# Altium integrated library Pedals SMD.IntLib: 124 symbols (part 1 of 7)
Pins are listed as number, name and electrical type; pins without a type are passive.

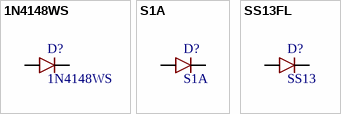
[diagram p0: symbols 1N4148WS to SS13FL]

## 1N4148WS
designator D?
DIODE GEN PURP 75V 150MA SOD323F; Manufacturer: ON Semiconductor / Fairchild; Element Configuration: Single; Reverse Recovery Time: 4ns; Forward Voltage: 1V; Peak Reverse Current: 5uA; Power Dissipation: 200mW; Max Forward Surge Current (Ifsm): 2A; Supplier 1: Farnell; Supplier Part Number 1: 2453269; Manufacturer Part Number: 1N4148WS; Stock: 379338; Pricing: 5=0.155, 25=0.151, 100=0.0529, 250=0.0498, 500=0.0477, 1000=0.0243, 5000=0.0193 (EUR); RoHS: Yes; Mount: Surface Mount; Number of Pins: 2; Weight: 0.0276g; Contact Plating: Tin; Min Operating Temperature: -55°C; Max Operating Temperature: 150°C; Forward Current: 150mA; Max Repetitive Reverse Voltage (Vrrm): 75V; Packaging: Tape and Reel; Package Quantity: 1; Average Rectified Current: 150mA; Max Reverse Voltage (DC): 75V; Recovery Time: 4ns; Reverse Voltage: 75V; Length: 1.8mm; Height: 1mm; Width: 1.35mm; Radiation Hardening: No; Lead Free: Lead Free; REACH SVHC: No SVHC; ComponentLink1URL: https://datasheet.ciiva.com/25968/1n914bws-25968945.pdf?src-supplier=Avnet+Europe; ComponentLink1Description: https://datasheet.ciiva.com/25968/1n914bws-25968945.pdf?src-supplier=Avnet+Europe; ComponentLink2URL: https://datasheet.ciiva.com/30479/0900766b810e1cd3-30479206.pdf?src-supplier=RSComponents; ComponentLink2Description: https://datasheet.ciiva.com/30479/0900766b810e1cd3-30479206.pdf?src-supplier=RSComponents; ComponentLink3URL: https://datasheet.ciiva.com/15208/getdatasheetpartid-127819-15208358.pdf?src-supplier=Verical; ComponentLink3Description: https://datasheet.ciiva.com/15208/getdatasheetpartid-127819-15208358.pdf?src-supplier=Verical; ComponentLink4URL: https://datasheet.ciiva.com/8300/1n914bws-8300360.pdf?src-supplier=Avnet; ComponentLink4Description: https://datasheet.ciiva.com/8300/1n914bws-8300360.pdf?src-supplier=Avnet; ComponentLink5URL: https://datasheet.ciiva.com/910/1n4148ws-910380.pdf?src-supplier=Digi-Key; ComponentLink5Description: https://datasheet.ciiva.com/910/1n4148ws-910380.pdf?src-supplier=Digi-Key; ComponentLink6URL: https://datasheet.ciiva.com/910/1n4148ws-910381.pdf?src-supplier=Digi-Key; ComponentLink6Description: https://datasheet.ciiva.com/910/1n4148ws-910381.pdf?src-supplier=Digi-Key; ComponentLink7URL: https://datasheet.ciiva.com/910/1n4148ws-910382.pdf?src-supplier=Digi-Key; ComponentLink7Description: https://datasheet.ciiva.com/910/1n4148ws-910382.pdf?src-supplier=Digi-Key; Price: 0.0521
footprint SOD323 (SODFL, 2-Leads, Body 1.25x2.50mm, IPC Medium Density)
pins: 1, 2

## S1A
designator D?
DIODE GEN PURP 50V 1A SMA; Manufacturer: ON Semiconductor / Fairchild; Peak Reverse Current: 1uA; Max Surge Current: 40A; Forward Voltage: 1.1V; Peak Non-Repetitive Surge Current: 30A; Element Configuration: Single; Capacitance: 12pF; Recovery Time: 1800ns; Reverse Recovery Time: 1.8us; Polarity: Standard; Power Dissipation: 1.4W; Supplier 1: Farnell; Supplier Part Number 1: 9843868; Manufacturer Part Number: S1A; Stock: 34555; Pricing: 5=0.184, 25=0.179, 100=0.0727, 250=0.0669, 500=0.0667, 1000=0.0364, 5000=0.0293 (EUR); RoHS: Yes; Mount: Surface Mount; Case/Package: SMA; Number of Pins: 2; Weight: 0.106g; Contact Plating: Tin; Min Operating Temperature: -55°C; Max Operating Temperature: 150°C; Packaging: Tape and Reel; Package Quantity: 1; Voltage Rating (DC): 50V; Current Rating: 1A; Output Current: 1A; Forward Current: 1A; Max Repetitive Reverse Voltage (Vrrm): 50V; Average Rectified Current: 1A; Max Forward Surge Current (Ifsm): 30A; Max Reverse Voltage (DC): 50V; Reverse Voltage: 50V; Width: 5.28mm; Radiation Hardening: No; REACH SVHC: No SVHC; Lead Free: Lead Free; ComponentLink1URL: https://datasheet.ciiva.com/910/s1a-910480.pdf?src-supplier=Avnet; ComponentLink1Description: https://datasheet.ciiva.com/910/s1a-910480.pdf?src-supplier=Avnet; ComponentLink2URL: https://datasheet.ciiva.com/23683/1730038-23683616.pdf?src-supplier=Newark; ComponentLink2Description: https://datasheet.ciiva.com/23683/1730038-23683616.pdf?src-supplier=Newark; ComponentLink3URL: https://datasheet.ciiva.com/4452/s1a-191336-4452662.pdf?src-supplier=Mouser; ComponentLink3Description: https://datasheet.ciiva.com/4452/s1a-191336-4452662.pdf?src-supplier=Mouser; ComponentLink4URL: https://datasheet.ciiva.com/25624/0900766b80f9b629-25624903.pdf?src-supplier=RSComponents; ComponentLink4Description: https://datasheet.ciiva.com/25624/0900766b80f9b629-25624903.pdf?src-supplier=RSComponents; ComponentLink5URL: https://datasheet.ciiva.com/916/s1a-916898.pdf?src-supplier=Digi-Key; ComponentLink5Description: https://datasheet.ciiva.com/916/s1a-916898.pdf?src-supplier=Digi-Key; ComponentLink6URL: https://datasheet.ciiva.com/916/s1a-916899.pdf?src-supplier=Digi-Key; ComponentLink6Description: https://datasheet.ciiva.com/916/s1a-916899.pdf?src-supplier=Digi-Key; ComponentLink7URL: https://datasheet.ciiva.com/916/s1a-916900.pdf?src-supplier=Digi-Key; ComponentLink7Description: https://datasheet.ciiva.com/916/s1a-916900.pdf?src-supplier=Digi-Key; ComponentLink8URL: https://datasheet.ciiva.com/16800/s1a-16800103.pdf?src-supplier=Future+Electronics; ComponentLink8Description: https://datasheet.ciiva.com/16800/s1a-16800103.pdf?src-supplier=Future+Electronics; ComponentLink9URL: https://datasheet.ciiva.com/28469/1766308-28469031.pdf?src-supplier=Element14; ComponentLink9Description: https://datasheet.ciiva.com/28469/1766308-28469031.pdf?src-supplier=Element14; ComponentLink10URL: https://datasheet.ciiva.com/26231/s1k-26231832.pdf?src-supplier=Avnet+Europe; ComponentLink10Description: https://datasheet.ciiva.com/26231/s1k-26231832.pdf?src-supplier=Avnet+Europe; ComponentLink11URL: https://datasheet.ciiva.com/16474/s1k-16474283.pdf?src-supplier=Avnet+Asia; ComponentLink11Description: https://datasheet.ciiva.com/16474/s1k-16474283.pdf?src-supplier=Avnet+Asia; Price: 0.072
footprint DO214 (Molded Diode, 2-Leads, Body 4.30x2.63mm, IPC Medium Density)
pins: 1, 2

## SS13FL
designator D?, comment SS13
DIODE SCHOTTKY 30V 1A SOD123F; Manufacturer: ON Semiconductor / Fairchild; Manufacturer Part Number: SS13FL; Reverse Recovery Time: 5.875ns; Element Configuration: Single; Max Forward Surge Current (Ifsm): 40A; Supplier 1: Farnell; Supplier Part Number 1: 2985372; Stock: 9000; Pricing: 3000=0.0439, 9000=0.0358 (EUR); RoHS: Yes; Mount: Surface Mount; Case/Package: SOD; Weight: 0.0276g; Packaging: Tape and Reel; Average Rectified Current: 1A; Max Repetitive Reverse Voltage (Vrrm): 30V; Max Reverse Voltage (DC): 30V; ComponentLink1URL: http://www.farnell.com/datasheets/2552650.pdf?src-supplier=Farnell; ComponentLink1Description: http://www.farnell.com/datasheets/2552650.pdf?src-supplier=Farnell; ComponentLink2URL: https://www.fairchildsemi.com/datasheets/SS/SS13FL.pdf?src-supplier=Digi-Key; ComponentLink2Description: https://www.fairchildsemi.com/datasheets/SS/SS13FL.pdf?src-supplier=Digi-Key; Price: 0.225
footprint SOD123F (SODFL, 2-Leads, Body 1.73x3.60mm, IPC Medium Density)
pins: 1, 2


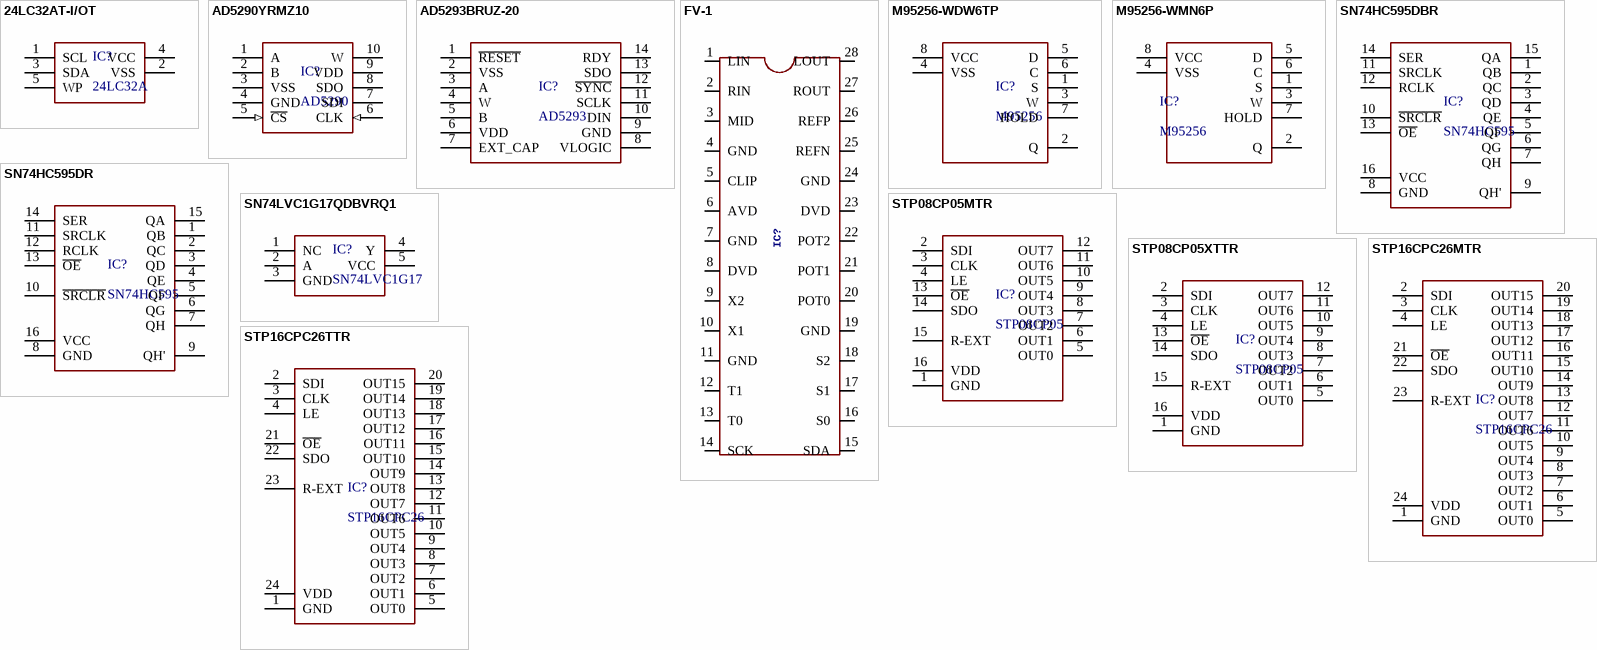
[diagram p1: symbols 24LC32AT-I/OT to STP16CPC26TTR]

## 24LC32AT-I/OT
designator IC?, comment 24LC32A
IC EEPROM 32KBIT 400KHZ SOT23-5; Manufacturer: Microchip; Manufacturer Part Number: 24LC32AT-I/OT; Interface: I2C,Serial; Access Time: 900ns; Density: 32Kb; Min Supply Voltage: 2.5V; Max Supply Voltage: 5.5V; Nominal Supply Current: 3mA; Operating Supply Voltage: 5V; Supplier 1: Farnell; Supplier Part Number 1: 1700993; RoHS: Yes; Category: EEPROM; Stock: 3287; Pricing: 1=0.29400, 10=0.29000, 25=0.28600, 50=0.27700, 100=0.26900 (EUR); Mount: Surface Mount; Case/Package: SOT-23; Number of Pins: 5; Contact Plating: Tin,Matte; Min Operating Temperature: -40°C; Max Operating Temperature: 85°C; Max Frequency: 400kHz; Frequency: 400kHz; Packaging: Tape and Reel; Package Quantity: 3000; Memory Type: EEPROM; Memory Size: 32Kb; Termination: SMD/SMT; Length: 3.1mm; Height: 1.3mm; Width: 1.8mm; Radiation Hardening: No; REACH SVHC: No SVHC; Lead Free: Lead Free; ComponentLink1URL: https://datasheet.ciiva.com/1155/1688094-1155269.pdf?src-supplier=Element14; ComponentLink1Description: https://datasheet.ciiva.com/1155/1688094-1155269.pdf?src-supplier=Element14; ComponentLink2URL: https://datasheet.ciiva.com/14134/24aa32a-24lc32a-eng-tds-14134837.pdf?src-supplier=Distrelec; ComponentLink2Description: https://datasheet.ciiva.com/14134/24aa32a-24lc32a-eng-tds-14134837.pdf?src-supplier=Distrelec; ComponentLink3URL: https://datasheet.ciiva.com/16221/filehandler-aspxddocname-en011853-16221753.pdf?src-supplier=Future+Electronics; ComponentLink3Description: https://datasheet.ciiva.com/16221/filehandler-aspxddocname-en011853-16221753.pdf?src-supplier=Future+Electronics; ComponentLink4URL: https://datasheet.ciiva.com/46410/1669362-46410953.pdf?src-supplier=Element14; ComponentLink4Description: https://datasheet.ciiva.com/46410/1669362-46410953.pdf?src-supplier=Element14; ComponentLink5URL: https://datasheet.ciiva.com/26910/getdatasheetpartid-757926-26910554.pdf?src-supplier=Verical; ComponentLink5Description: https://datasheet.ciiva.com/26910/getdatasheetpartid-757926-26910554.pdf?src-supplier=Verical; ComponentLink6URL: https://datasheet.ciiva.com/16621/21713l-16621534.pdf?src-supplier=Avnet+Europe; ComponentLink6Description: https://datasheet.ciiva.com/16621/21713l-16621534.pdf?src-supplier=Avnet+Europe; ComponentLink7URL: https://datasheet.ciiva.com/22715/1669362-22715182.pdf?src-supplier=Element14; ComponentLink7Description: https://datasheet.ciiva.com/22715/1669362-22715182.pdf?src-supplier=Element14
footprint SOT-23-5
pins: 1 SCL, 2 VSS (power), 3 SDA, 4 VCC (power), 5 WP

## AD5290YRMZ10
designator IC?, comment AD5290
DIGIPOT 8BIT 10K, SMD, 5290, MSOP10; Manufacturer: Analog Devices; Manufacturer Part Number: AD5290YRMZ10; Resistance: 10kR; Memory Type: Volatile; Number of Positions: 256; Interface: SPI; Min Supply Voltage: 20V; Max Supply Voltage: 30V; Number of Elements: 1; Tolerance: 30%; Nominal Supply Current: 15uA; Min Dual Supply Voltage: 10V; Max Dual Supply Voltage: 15V; Temperature Coefficient: 35ppm/°C; Frequency: 4MHz; -3db Bandwidth: 470Hz; Voltage: 35V; Supplier 1: Farnell; Supplier Part Number 1: 1274278; RoHS: Yes; Category: Digital Potentiometers; Stock: 199; Pricing: 1=5.36000, 10=4.31000, 25=3.90000, 50=3.71000, 100=3.55000, 250=3.20000, 500=2.75000 (EUR); Mount: Surface Mount; Case/Package: MSOP; Number of Pins: 10; Contact Plating: Tin,Matte; Min Operating Temperature: -40°C; Max Operating Temperature: 125°C; Packaging: Rail/Tube; Package Quantity: 50; Taper: Linear; Number of Circuits: 1; Number of Taps: 256; Operating Supply Current: 15uA; Max Supply Current: 15uA; Length: 3mm; Height: 0.85mm; Width: 3mm; Radiation Hardening: No; Lead Free: Contains Lead; REACH SVHC: No SVHC; ComponentLink1URL: https://datasheet.ciiva.com/1145/1519523-1145622.pdf?src-supplier=Element14; ComponentLink1Description: https://datasheet.ciiva.com/1145/1519523-1145622.pdf?src-supplier=Element14; ComponentLink2URL: https://datasheet.ciiva.com/25918/ad5290-25918522.pdf?src-supplier=Avnet+Europe; ComponentLink2Description: https://datasheet.ciiva.com/25918/ad5290-25918522.pdf?src-supplier=Avnet+Europe; ComponentLink3URL: https://datasheet.ciiva.com/1331/ad5290-1331012.pdf?src-supplier=Digi-Key; ComponentLink3Description: https://datasheet.ciiva.com/1331/ad5290-1331012.pdf?src-supplier=Digi-Key; ComponentLink4URL: https://datasheet.ciiva.com/16471/ad5290-16471686.pdf?src-supplier=Avnet+Asia; ComponentLink4Description: https://datasheet.ciiva.com/16471/ad5290-16471686.pdf?src-supplier=Avnet+Asia; ComponentLink5URL: https://datasheet.ciiva.com/3045/ad5290-3045389.pdf?src-supplier=Avnet; ComponentLink5Description: https://datasheet.ciiva.com/3045/ad5290-3045389.pdf?src-supplier=Avnet
footprint MSOP-10
pins: 1 A, 2 B, 3 VSS (power), 4 GND (power), 5 ~{CS} (in), 6 CLK (in), 7 SDI, 8 SDO, 9 VDD (power), 10 W

## AD5293BRUZ-20
designator IC?, comment AD5293
Digital Potentiometer 20kOhm 1024POS Volatile 14-Pin TSSOP Tube; Manufacturer: Analog Devices; Manufacturer Part Number: AD5293BRUZ-20; Resistance: 20kR; Number of Positions: 1024; Min Supply Voltage: 9V; Max Supply Voltage: 33V; Interface: SPI; Operating Supply Current: 200nA; Operating Supply Voltage: 15V; Temperature Coefficient: 5ppm/°C; Max Supply Current: 100nA; Tolerance: 1%; Number of Circuits: 1; Max Dual Supply Voltage: 16.5V; -3db Bandwidth: 520kHz; Supplier 1: Farnell; Supplier Part Number 1: 1827274; RoHS: Yes; Category: Digital Potentiometers; Stock: 195; Pricing: 1=6.38000, 10=5.22000, 25=4.92000, 50=4.62000, 100=4.39000, 250=4.12000, 500=3.94000 (EUR); Mount: Surface Mount; Case/Package: TSSOP; Number of Pins: 14; Contact Plating: Tin,Matte; Min Operating Temperature: -40°C; Max Operating Temperature: 105°C; Memory Type: Volatile; Packaging: Rail/Tube; Package Quantity: 96; Nominal Supply Current: 200nA; Taper: Linear; Number of Taps: 1024; Number of Elements: 1; Dual Supply Voltage: 15V; Min Dual Supply Voltage: 9V; Length: 5.1mm; Height: 1.2mm; Width: 4.5mm; Radiation Hardening: No; Lead Free: Contains Lead; REACH SVHC: No SVHC; ComponentLink1URL: https://datasheet.ciiva.com/25623/0900766b810ada80-25623724.pdf?src-supplier=RSComponents; ComponentLink1Description: https://datasheet.ciiva.com/25623/0900766b810ada80-25623724.pdf?src-supplier=RSComponents; ComponentLink2URL: https://datasheet.ciiva.com/1146/ad5293-1146560.pdf?src-supplier=Element14; ComponentLink2Description: https://datasheet.ciiva.com/1146/ad5293-1146560.pdf?src-supplier=Element14; ComponentLink3URL: https://datasheet.ciiva.com/26801/ad5293bruz-20-26801803.pdf?src-supplier=IIIC; ComponentLink3Description: https://datasheet.ciiva.com/26801/ad5293bruz-20-26801803.pdf?src-supplier=IIIC; ComponentLink4URL: https://datasheet.ciiva.com/1331/ad5293-1331078.pdf?src-supplier=Digi-Key; ComponentLink4Description: https://datasheet.ciiva.com/1331/ad5293-1331078.pdf?src-supplier=Digi-Key; ComponentLink5URL: https://datasheet.ciiva.com/3045/ad5293-3045960.pdf?src-supplier=Avnet; ComponentLink5Description: https://datasheet.ciiva.com/3045/ad5293-3045960.pdf?src-supplier=Avnet; ComponentLink6URL: https://datasheet.ciiva.com/1149/ad5293-1149307.pdf?src-supplier=Farnell; ComponentLink6Description: https://datasheet.ciiva.com/1149/ad5293-1149307.pdf?src-supplier=Farnell; ComponentLink7URL: https://datasheet.ciiva.com/16593/ad5293-16593547.pdf?src-supplier=Avnet+Europe; ComponentLink7Description: https://datasheet.ciiva.com/16593/ad5293-16593547.pdf?src-supplier=Avnet+Europe; ComponentLink8URL: https://datasheet.ciiva.com/15145/getdatasheetpartid-205736-15145773.pdf?src-supplier=Verical; ComponentLink8Description: https://datasheet.ciiva.com/15145/getdatasheetpartid-205736-15145773.pdf?src-supplier=Verical; ComponentLink9URL: https://datasheet.ciiva.com/1145/1314771-1145670.pdf?src-supplier=Element14; ComponentLink9Description: https://datasheet.ciiva.com/1145/1314771-1145670.pdf?src-supplier=Element14; ComponentLink10URL: https://datasheet.ciiva.com/48710/001246189-da-01-en-ic-dgtl-pot-1-ad5293bruz-20-tssop-14-adi-48710844.pdf?src-supplier=Conrad; ComponentLink10Description: https://datasheet.ciiva.com/48710/001246189-da-01-en-ic-dgtl-pot-1-ad5293bruz-20-tssop-14-adi-48710844.pdf?src-supplier=Conrad
footprint TSSOP-14 (TSOP, 14-Leads, Body 5.00x4.40mm, Pitch 0.65mm, IPC Medium Density)
pins: 1 ~{RESET}, 2 VSS, 3 A, 4 W, 5 B, 6 VDD, 7 EXT_CAP, 8 VLOGIC, 9 GND, 10 DIN, 11 SCLK, 12 ~{SYNC}, 13 SDO, 14 RDY

## FV-1
designator IC?  (value not drawn)
Spinsemi FV-1; Package: SOIC-28; Price: 8
footprint SO-28
pins: 1 LIN, 2 RIN, 3 MID, 4 GND, 5 CLIP, 6 AVD, 7 GND, 8 DVD, 9 X2, 10 X1, 11 GND, 12 T1, 13 T0, 14 SCK, 15 SDA, 16 S0, 17 S1, 18 S2, 19 GND, 20 POT0, 21 POT1, 22 POT2, 23 DVD, 24 GND, 25 REFN, 26 REFP, 27 ROUT, 28 LOUT

## M95256-WDW6TP
designator IC?, comment M95256
IC EEPROM 256KBIT 5MHZ 8TSSOP; Manufacturer: STMicroelectronics; Manufacturer Part Number: M95256-WDW6TP; Interface: SPI,Serial; Access Time: 60ns; Density: 256Kb; Max Supply Voltage: 5.5V; Min Supply Voltage: 2.5V; Nominal Supply Current: 5mA; Operating Supply Voltage: 5V; Supplier 1: Farnell; Supplier Part Number 1: 3129844; RoHS: Yes; Category: EEPROM; Stock: 3323; Pricing: 1=0.60500, 50=0.52800, 100=0.46800, 250=0.46500, 500=0.46200, 1000=0.44500, 2500=0.36700, 5000=0.36100 (EUR); Mount: Surface Mount; Case/Package: TSSOP; Number of Pins: 8; Min Operating Temperature: -40°C; Max Operating Temperature: 85°C; Max Frequency: 5MHz; Frequency: 5MHz; Packaging: Tape and Reel; Package Quantity: 1; Memory Type: EEPROM; Memory Size: 256Kb; Radiation Hardening: No; ComponentLink1URL: https://datasheet.ciiva.com/15123/getdatasheetpartid-224457-15123296.pdf?src-supplier=Verical; ComponentLink1Description: https://datasheet.ciiva.com/15123/getdatasheetpartid-224457-15123296.pdf?src-supplier=Verical; ComponentLink2URL: https://datasheet.ciiva.com/26872/m95256-wdw6tp-26872589.pdf?src-supplier=IIIC; ComponentLink2Description: https://datasheet.ciiva.com/26872/m95256-wdw6tp-26872589.pdf?src-supplier=IIIC; ComponentLink3URL: https://datasheet.ciiva.com/1905/cd00103810-1905235.pdf?src-supplier=Digi-Key; ComponentLink3Description: https://datasheet.ciiva.com/1905/cd00103810-1905235.pdf?src-supplier=Digi-Key; ComponentLink4URL: https://datasheet.ciiva.com/1905/cd00103810-1905236.pdf?src-supplier=Digi-Key; ComponentLink4Description: https://datasheet.ciiva.com/1905/cd00103810-1905236.pdf?src-supplier=Digi-Key; ComponentLink5URL: https://datasheet.ciiva.com/1905/cd00103810-1905237.pdf?src-supplier=Digi-Key; ComponentLink5Description: https://datasheet.ciiva.com/1905/cd00103810-1905237.pdf?src-supplier=Digi-Key; ComponentLink6URL: https://datasheet.ciiva.com/16622/cd00103810-16622982.pdf?src-supplier=Avnet+Europe; ComponentLink6Description: https://datasheet.ciiva.com/16622/cd00103810-16622982.pdf?src-supplier=Avnet+Europe
footprint TSSOP-8 (TSOP, 8-Leads, Body 3.00x4.40mm, Pitch 0.65mm, IPC Medium Density)
pins: 1 S, 2 Q, 3 W, 4 VSS (power), 5 D, 6 C, 7 HOLD, 8 VCC (power)

## M95256-WMN6P
designator IC?, comment M95256
IC EEPROM 256K SPI 20MHZ 8SO; Manufacturer: STMicroelectronics; Manufacturer Part Number: M95256-WMN6P; Interface: SPI,Serial; Frequency: 5MHz; Access Time: 60ns; Density: 256Kb; Min Supply Voltage: 2.5V; Max Supply Voltage: 5.5V; Nominal Supply Current: 5mA; Supplier 1: Farnell; Supplier Part Number 1: 1099712; RoHS: Yes; Category: EEPROM; Stock: 4109; Pricing: 1=0.63300, 50=0.55300, 100=0.49000, 250=0.48700, 500=0.48300, 1000=0.46600, 2500=0.38800, 5000=0.37200 (EUR); Mount: Surface Mount; Case/Package: SOIC; Number of Pins: 8; Contact Plating: Gold; Min Operating Temperature: -40°C; Max Operating Temperature: 85°C; Packaging: Rail/Tube; Memory Size: 256Kb; Max Frequency: 5MHz; Package Quantity: 100; Memory Type: EEPROM; Length: 5mm; Height: 1.5mm; Width: 4mm; Radiation Hardening: No; REACH SVHC: No SVHC; Lead Free: Lead Free; ComponentLink1URL: https://datasheet.ciiva.com/4859/cd00103810-224498-4859620.pdf?src-supplier=Mouser; ComponentLink1Description: https://datasheet.ciiva.com/4859/cd00103810-224498-4859620.pdf?src-supplier=Mouser; ComponentLink2URL: https://datasheet.ciiva.com/15123/getdatasheetpartid-42741-15123093.pdf?src-supplier=Verical; ComponentLink2Description: https://datasheet.ciiva.com/15123/getdatasheetpartid-42741-15123093.pdf?src-supplier=Verical; ComponentLink3URL: https://datasheet.ciiva.com/14163/m95256-w-eng-tds-14163003.pdf?src-supplier=Distrelec; ComponentLink3Description: https://datasheet.ciiva.com/14163/m95256-w-eng-tds-14163003.pdf?src-supplier=Distrelec; ComponentLink4URL: https://datasheet.ciiva.com/1905/cd00103810-1905381.pdf?src-supplier=Digi-Key; ComponentLink4Description: https://datasheet.ciiva.com/1905/cd00103810-1905381.pdf?src-supplier=Digi-Key; ComponentLink5URL: https://datasheet.ciiva.com/8055/1723939-8055206.pdf?src-supplier=Element14; ComponentLink5Description: https://datasheet.ciiva.com/8055/1723939-8055206.pdf?src-supplier=Element14; ComponentLink6URL: https://datasheet.ciiva.com/16622/cd00103810-16622983.pdf?src-supplier=Avnet+Europe; ComponentLink6Description: https://datasheet.ciiva.com/16622/cd00103810-16622983.pdf?src-supplier=Avnet+Europe; ComponentLink7URL: https://datasheet.ciiva.com/41455/001185592-da-01-en-ic-eepr-256kbit-m95256-wmn6p-soic-8-stm-41455210.pdf?src-supplier=Conrad; ComponentLink7Description: https://datasheet.ciiva.com/41455/001185592-da-01-en-ic-eepr-256kbit-m95256-wmn6p-soic-8-stm-41455210.pdf?src-supplier=Conrad
footprint SO-8 (SOIC, 8-Leads, Body 4.90x3.90mm, Pitch 1.27mm, IPC Medium Density)
pins: 1 S, 2 Q, 3 W, 4 VSS (power), 5 D, 6 C, 7 HOLD, 8 VCC (power)

## SN74HC595DBR
designator IC?, comment SN74HC595
IC SHIFT REGISTER 8BIT 16-SSOP; Manufacturer: Texas Instruments; Manufacturer Part Number: SN74HC595DBR; Operating Supply Voltage: 5V; Propagation Delay: 34ns; Min Supply Voltage: 2V; Max Supply Voltage: 6V; Number of Elements: 1; Direction: Unidirectional; Number of Bits per Element: 8; Number of Circuits: 4; Number of Output Lines: 10; Turn-On Delay Time: 250ns; Quiescent Current: 8uA; Supplier 1: Farnell; Supplier Part Number 1: 2499904; RoHS: Yes; Category: Shift Registers; Stock: 187; Pricing: 5=0.18800, 50=0.15100, 100=0.12200 (EUR); Mount: Surface Mount; Case/Package: SSOP; Number of Pins: 16; Weight: 0.004536oz; Contact Plating: Gold; Min Operating Temperature: -40°C; Max Operating Temperature: 85°C; Packaging: Tape and Reel; Package Quantity: 2000; Logic Function: Shift Register; Number of Bits: 8; Radiation Hardening: No; Lead Free: Lead Free; REACH SVHC: No SVHC; ComponentLink1URL: https://datasheet.ciiva.com/1887/sn74hc595-1887145.pdf?src-supplier=Digi-Key; ComponentLink1Description: https://datasheet.ciiva.com/1887/sn74hc595-1887145.pdf?src-supplier=Digi-Key; ComponentLink2URL: https://datasheet.ciiva.com/26259/sn74hc595-26259950.pdf?src-supplier=Avnet+Europe; ComponentLink2Description: https://datasheet.ciiva.com/26259/sn74hc595-26259950.pdf?src-supplier=Avnet+Europe; ComponentLink3URL: https://datasheet.ciiva.com/14295/sn74hc595-14295293.pdf?src-supplier=Avnet; ComponentLink3Description: https://datasheet.ciiva.com/14295/sn74hc595-14295293.pdf?src-supplier=Avnet; ComponentLink4URL: https://datasheet.ciiva.com/14296/sn74hc595-14296542.pdf?src-supplier=Avnet; ComponentLink4Description: https://datasheet.ciiva.com/14296/sn74hc595-14296542.pdf?src-supplier=Avnet
footprint TSSOP-16 (TSOP, 16-Leads, Body 4.95x4.35mm, Pitch 0.65mm, IPC Medium Density)
pins: 1 QB, 2 QC, 3 QD, 4 QE, 5 QF, 6 QG, 7 QH, 8 GND, 9 QH', 10 ~{SRCLR}, 11 SRCLK, 12 RCLK, 13 ~{OE}, 14 SER, 15 QA, 16 VCC

## SN74HC595DR
designator IC?, comment SN74HC595
IC, SM, LOGIC, 74HC, REGISTER; Manufacturer: Texas Instruments; Manufacturer Part Number: SN74HC595DR; Direction: Unidirectional; Max Supply Voltage: 6V; Min Supply Voltage: 2V; Propagation Delay: 250ns; Logic Function: Shift Register; Number of Elements: 1; Number of Circuits: 4; Number of Bits: 8; Operating Supply Voltage: 5V; Number of Output Lines: 10; Quiescent Current: 8uA; Frequency: 42MHz; Max Input Current: 1uA; Supplier 1: Farnell; Supplier Part Number 1: 1607849; RoHS: Yes; Category: Shift Registers; Stock: 8089; Pricing: 5=0.35500, 50=0.28400, 100=0.21300, 250=0.18900, 500=0.16600, 1000=0.14100, 5000=0.13300 (EUR); Mount: Surface Mount; Case/Package: SOIC; Number of Pins: 16; Weight: 0.004998oz; Contact Plating: Gold; Min Operating Temperature: -40°C; Max Operating Temperature: 85°C; Packaging: Tape and Reel; Package Quantity: 2500; Number of Bits per Element: 8; Turn-On Delay Time: 250ns; Termination: SMD/SMT; Length: 9.9mm; Height: 1.58mm; Width: 3.91mm; Radiation Hardening: No; Lead Free: Lead Free; REACH SVHC: No SVHC; ComponentLink1URL: https://datasheet.ciiva.com/15093/getdatasheetpartid-134875-15093436.pdf?src-supplier=Verical; ComponentLink1Description: https://datasheet.ciiva.com/15093/getdatasheetpartid-134875-15093436.pdf?src-supplier=Verical; ComponentLink2URL: https://datasheet.ciiva.com/22696/1831198-22696812.pdf?src-supplier=Element14; ComponentLink2Description: https://datasheet.ciiva.com/22696/1831198-22696812.pdf?src-supplier=Element14; ComponentLink3URL: https://datasheet.ciiva.com/34301/916385-34301758.pdf?src-supplier=Jameco; ComponentLink3Description: https://datasheet.ciiva.com/34301/916385-34301758.pdf?src-supplier=Jameco; ComponentLink4URL: https://datasheet.ciiva.com/26866/sn74hc595dr-26866161.pdf?src-supplier=IIIC; ComponentLink4Description: https://datasheet.ciiva.com/26866/sn74hc595dr-26866161.pdf?src-supplier=IIIC; ComponentLink5URL: https://datasheet.ciiva.com/1886/sn74hc595-1886279.pdf?src-supplier=Digi-Key; ComponentLink5Description: https://datasheet.ciiva.com/1886/sn74hc595-1886279.pdf?src-supplier=Digi-Key; ComponentLink6URL: https://datasheet.ciiva.com/1886/sn74hc595-1886280.pdf?src-supplier=Digi-Key; ComponentLink6Description: https://datasheet.ciiva.com/1886/sn74hc595-1886280.pdf?src-supplier=Digi-Key; ComponentLink7URL: https://datasheet.ciiva.com/1886/sn74hc595-1886281.pdf?src-supplier=Digi-Key; ComponentLink7Description: https://datasheet.ciiva.com/1886/sn74hc595-1886281.pdf?src-supplier=Digi-Key; ComponentLink8URL: https://datasheet.ciiva.com/1509/1831198-1509483.pdf?src-supplier=Element14; ComponentLink8Description: https://datasheet.ciiva.com/1509/1831198-1509483.pdf?src-supplier=Element14; ComponentLink9URL: https://datasheet.ciiva.com/46381/1886142-46381835.pdf?src-supplier=Element14; ComponentLink9Description: https://datasheet.ciiva.com/46381/1886142-46381835.pdf?src-supplier=Element14; ComponentLink10URL: https://datasheet.ciiva.com/14294/sn74hc595-14294989.pdf?src-supplier=Avnet; ComponentLink10Description: https://datasheet.ciiva.com/14294/sn74hc595-14294989.pdf?src-supplier=Avnet; ComponentLink11URL: https://datasheet.ciiva.com/14294/sn74hc595-14294991.pdf?src-supplier=Avnet; ComponentLink11Description: https://datasheet.ciiva.com/14294/sn74hc595-14294991.pdf?src-supplier=Avnet; ComponentLink12URL: https://datasheet.ciiva.com/46435/1831198-46435871.pdf?src-supplier=Element14; ComponentLink12Description: https://datasheet.ciiva.com/46435/1831198-46435871.pdf?src-supplier=Element14
footprint SO-16 (SOIC, 16-Leads, Body 9.85x3.85mm, Pitch 1.27mm, IPC Medium Density)
pins: 1 QB, 2 QC, 3 QD, 4 QE, 5 QF, 6 QG, 7 QH, 8 GND, 9 QH', 10 ~{SRCLR}, 11 SRCLK, 12 RCLK, 13 ~{OE}, 14 SER, 15 QA, 16 VCC

## SN74LVC1G17QDBVRQ1
designator IC?, comment SN74LVC1G17
Schmitt Trigger Buffer 1-CH Non-Inverting CMOS Automotive 5-Pin SOT-23 T/R; Manufacturer: Texas Instruments; Manufacturer Part Number: SN74LVC1G17QDBVRQ1; Logic Function: Schmitt Trigger,Buffer; Max Supply Voltage: 5.5V; Min Supply Voltage: 1.65V; Propagation Delay: 8ns; Number of Channels: 1; Low Level Output Current: 32mA; High Level Output Current: -32mA; Turn-On Delay Time: 14ns; Quiescent Current: 20uA; Supplier 1: Farnell; Supplier Part Number 1: 2463773; RoHS: Yes; Category: Logic Gates; Stock: 8770; Pricing: 5=0.23100, 50=0.17800, 100=0.12400, 250=0.10900, 500=0.09450, 1000=0.07980, 5000=0.07410 (EUR); Mount: Surface Mount; Case/Package: SOT-23-5; Number of Pins: 5; Min Operating Temperature: -40°C; Max Operating Temperature: 125°C; Polarity: Non-Inverting; Packaging: Tape and Reel; Package Quantity: 3000; Number of Outputs: 1; Number of Elements: 1; Number of Bits per Element: 1; Number of Bits: 1; Number of Inputs: 1; Number of Input Lines: 1; Number of Output Lines: 1; Radiation Hardening: No; REACH SVHC: No SVHC; Lead Free: Lead Free; ComponentLink1URL: https://datasheet.ciiva.com/26220/sn74lvc1g17-q1-26220672.pdf?src-supplier=Avnet+Europe; ComponentLink1Description: https://datasheet.ciiva.com/26220/sn74lvc1g17-q1-26220672.pdf?src-supplier=Avnet+Europe; ComponentLink2URL: https://datasheet.ciiva.com/6623/sn74lvc1g17-q1-6623803.pdf?src-supplier=Digi-Key; ComponentLink2Description: https://datasheet.ciiva.com/6623/sn74lvc1g17-q1-6623803.pdf?src-supplier=Digi-Key; ComponentLink3URL: https://datasheet.ciiva.com/6623/sn74lvc1g17-q1-6623805.pdf?src-supplier=Digi-Key; ComponentLink3Description: https://datasheet.ciiva.com/6623/sn74lvc1g17-q1-6623805.pdf?src-supplier=Digi-Key; ComponentLink4URL: https://datasheet.ciiva.com/14318/sces663a-14318069.pdf?src-supplier=Avnet; ComponentLink4Description: https://datasheet.ciiva.com/14318/sces663a-14318069.pdf?src-supplier=Avnet; ComponentLink5URL: https://datasheet.ciiva.com/46442/1840260-46442070.pdf?src-supplier=Element14; ComponentLink5Description: https://datasheet.ciiva.com/46442/1840260-46442070.pdf?src-supplier=Element14; ComponentLink6URL: https://datasheet.ciiva.com/6623/sn74lvc1g17-q1-6623804.pdf?src-supplier=Digi-Key; ComponentLink6Description: https://datasheet.ciiva.com/6623/sn74lvc1g17-q1-6623804.pdf?src-supplier=Digi-Key
footprint SOT-23-5
pins: 1 NC, 2 A, 3 GND, 4 Y, 5 VCC

## STP08CP05MTR
designator IC?, comment STP08CP05
IC SHIFT REGISTER 8BIT 16SOIC; Manufacturer: STMicroelectronics; Manufacturer Part Number: STP08CP05MTR; Max Supply Voltage: 5.5V; Min Supply Voltage: 3V; Number of Outputs: 8; Number of Elements: 1; Propagation Delay: 28ns; Nominal Supply Current: 13.5mA; Output Voltage: 20V; Number of Output Lines: 9; Output Current per Channel: 100mA; Switching Frequency: 30MHz; Supplier 1: Farnell; Supplier Part Number 1: 2460704; RoHS: Yes; Category: Shift Registers; Stock: 5551; Pricing: 1=0.78800, 50=0.68900, 100=0.44400, 250=0.41500, 500=0.38500, 1000=0.35600, 2500=0.30100, 5000=0.28900 (EUR); Mount: Surface Mount; Case/Package: SO; Number of Pins: 16; Contact Plating: Gold; Min Operating Temperature: -40°C; Max Operating Temperature: 125°C; Packaging: Tape and Reel; Package Quantity: 1; Number of Bits per Element: 8; Logic Function: Shift Register; Number of Circuits: 1; Number of Input Lines: 1; Output Current: 100mA; Min Input Voltage: 3V; Max Input Voltage: 5.5V; Radiation Hardening: No; Lead Free: Lead Free; REACH SVHC: No SVHC; ComponentLink1URL: https://datasheet.ciiva.com/26807/getdatasheetpartid-50603-26807446.pdf?src-supplier=Verical; ComponentLink1Description: https://datasheet.ciiva.com/26807/getdatasheetpartid-50603-26807446.pdf?src-supplier=Verical; ComponentLink2URL: https://datasheet.ciiva.com/41455/001185564-da-01-en-ic-shift-regist-stp08cp05mtr-soic-16-stm-41455644.pdf?src-supplier=Conrad; ComponentLink2Description: https://datasheet.ciiva.com/41455/001185564-da-01-en-ic-shift-regist-stp08cp05mtr-soic-16-stm-41455644.pdf?src-supplier=Conrad; ComponentLink3URL: https://datasheet.ciiva.com/16491/cd00160230-16491197.pdf?src-supplier=Future+Electronics; ComponentLink3Description: https://datasheet.ciiva.com/16491/cd00160230-16491197.pdf?src-supplier=Future+Electronics
footprint SO-16 (SOIC, 16-Leads, Body 9.85x3.85mm, Pitch 1.27mm, IPC Medium Density)
pins: 1 GND, 2 SDI, 3 CLK, 4 LE, 5 OUT0, 6 OUT1, 7 OUT2, 8 OUT3, 9 OUT4, 10 OUT5, 11 OUT6, 12 OUT7, 13 ~{OE}, 14 SDO, 15 R-EXT, 16 VDD

## STP08CP05XTTR
designator IC?, comment STP08CP05
IC SHIFT REGISTER 8BIT 16TSSOP; Manufacturer: STMicroelectronics; Manufacturer Part Number: STP08CP05XTTR; Max Supply Voltage: 5.5V; Min Supply Voltage: 3V; Number of Elements: 1; Number of Bits per Element: 8; Nominal Supply Current: 13.5mA; Output Voltage: 20V; Propagation Delay: 28ns; Number of Output Lines: 9; Output Current per Channel: 100mA; Supplier 1: Farnell; Supplier Part Number 1: 2806853; RoHS: Yes; Category: LED Drivers; Stock: 3146; Pricing: 1=0.99400, 25=0.86900, 50=0.76800, 100=0.66700, 250=0.62900, 500=0.59000, 1000=0.46600, 2500=0.40300 (EUR); Mount: Surface Mount; Case/Package: TSSOP; Number of Pins: 16; Min Operating Temperature: -40°C; Max Operating Temperature: 125°C; Packaging: Tape and Reel; Package Quantity: 1; Logic Function: Shift Register; Number of Circuits: 1; Number of Input Lines: 1; Radiation Hardening: No; Lead Free: Lead Free; ComponentLink1URL: https://datasheet.ciiva.com/4804/cd00160230-116051-4804992.pdf?src-supplier=Mouser; ComponentLink1Description: https://datasheet.ciiva.com/4804/cd00160230-116051-4804992.pdf?src-supplier=Mouser; ComponentLink2URL: https://datasheet.ciiva.com/41455/001185566-da-01-en-ic-shift-regi-stp08cp05xttr-tssop-16-stm-41455645.pdf?src-supplier=Conrad; ComponentLink2Description: https://datasheet.ciiva.com/41455/001185566-da-01-en-ic-shift-regi-stp08cp05xttr-tssop-16-stm-41455645.pdf?src-supplier=Conrad; ComponentLink3URL: https://datasheet.ciiva.com/17300/cd00160230-17300327.pdf?src-supplier=Avnet+Europe; ComponentLink3Description: https://datasheet.ciiva.com/17300/cd00160230-17300327.pdf?src-supplier=Avnet+Europe; ComponentLink4URL: https://datasheet.ciiva.com/1886/cd00160230-1886505.pdf?src-supplier=Digi-Key; ComponentLink4Description: https://datasheet.ciiva.com/1886/cd00160230-1886505.pdf?src-supplier=Digi-Key; ComponentLink5URL: https://datasheet.ciiva.com/1886/cd00160230-1886506.pdf?src-supplier=Digi-Key; ComponentLink5Description: https://datasheet.ciiva.com/1886/cd00160230-1886506.pdf?src-supplier=Digi-Key; ComponentLink6URL: https://datasheet.ciiva.com/1886/cd00160230-1886507.pdf?src-supplier=Digi-Key; ComponentLink6Description: https://datasheet.ciiva.com/1886/cd00160230-1886507.pdf?src-supplier=Digi-Key; ComponentLink7URL: https://datasheet.ciiva.com/16491/cd00160230-16491180.pdf?src-supplier=Future+Electronics; ComponentLink7Description: https://datasheet.ciiva.com/16491/cd00160230-16491180.pdf?src-supplier=Future+Electronics
footprint TSSOP-16 (TSOP, 16-Leads, Body 4.95x4.35mm, Pitch 0.65mm, IPC Medium Density)
pins: 1 GND, 2 SDI, 3 CLK, 4 LE, 5 OUT0, 6 OUT1, 7 OUT2, 8 OUT3, 9 OUT4, 10 OUT5, 11 OUT6, 12 OUT7, 13 ~{OE}, 14 SDO, 15 R-EXT, 16 VDD

## STP16CPC26MTR
designator IC?, comment STP16CPC26
IC LED DRIVER LIN DIM 90MA 24SO; Manufacturer: STMicroelectronics; Manufacturer Part Number: STP16CPC26MTR; Output Voltage: 20V; Max Supply Voltage: 5.5V; Min Supply Voltage: 3V; Number of Outputs: 16; Frequency: 30MHz; Max Supply Current: 15.3mA; Supplier 1: Farnell; Supplier Part Number 1: 2460710; RoHS: Yes; Category: LED Drivers; Stock: 1485; Pricing: 1=1.00000, 25=0.87800, 50=0.77600, 100=0.67400, 250=0.63500, 500=0.59600, 1000=0.50900, 2500=0.42200 (EUR); Mount: Surface Mount; Case/Package: SOIC; Number of Pins: 24; Min Operating Temperature: -40°C; Max Operating Temperature: 125°C; Packaging: Tape and Reel; Package Quantity: 1; Output Current: 90mA; Min Input Voltage: 3V; Max Input Voltage: 5.5V; Switching Frequency: 30MHz; Output Current per Channel: 90mA; Radiation Hardening: No; REACH SVHC: No SVHC; Lead Free: Lead Free; ComponentLink1URL: https://datasheet.ciiva.com/41458/001184648-da-01-en-ic-led-sink-dv-stp16cpc26mtr-soic-24-stm-41458200.pdf?src-supplier=Conrad; ComponentLink1Description: https://datasheet.ciiva.com/41458/001184648-da-01-en-ic-led-sink-dv-stp16cpc26mtr-soic-24-stm-41458200.pdf?src-supplier=Conrad; ComponentLink2URL: https://datasheet.ciiva.com/1947/cd00298756-1947651.pdf?src-supplier=Digi-Key; ComponentLink2Description: https://datasheet.ciiva.com/1947/cd00298756-1947651.pdf?src-supplier=Digi-Key; ComponentLink3URL: https://datasheet.ciiva.com/1947/cd00298756-1947652.pdf?src-supplier=Digi-Key; ComponentLink3Description: https://datasheet.ciiva.com/1947/cd00298756-1947652.pdf?src-supplier=Digi-Key; ComponentLink4URL: https://datasheet.ciiva.com/1947/cd00298756-1947653.pdf?src-supplier=Digi-Key; ComponentLink4Description: https://datasheet.ciiva.com/1947/cd00298756-1947653.pdf?src-supplier=Digi-Key; ComponentLink5URL: https://datasheet.ciiva.com/16491/cd00298756-16491784.pdf?src-supplier=Future+Electronics; ComponentLink5Description: https://datasheet.ciiva.com/16491/cd00298756-16491784.pdf?src-supplier=Future+Electronics; ComponentLink6URL: https://datasheet.ciiva.com/3165/cd00298756-3165289.pdf?src-supplier=Avnet; ComponentLink6Description: https://datasheet.ciiva.com/3165/cd00298756-3165289.pdf?src-supplier=Avnet; ComponentLink7URL: https://datasheet.ciiva.com/17015/cd00298756-17015228.pdf?src-supplier=Avnet+Europe; ComponentLink7Description: https://datasheet.ciiva.com/17015/cd00298756-17015228.pdf?src-supplier=Avnet+Europe
footprint SO-24 (SOIC, 24-Leads, Body 15.40x7.50mm, Pitch 1.27mm, IPC Medium Density)
pins: 1 GND, 2 SDI, 3 CLK, 4 LE, 5 OUT0, 6 OUT1, 7 OUT2, 8 OUT3, 9 OUT4, 10 OUT5, 11 OUT6, 12 OUT7, 13 OUT8, 14 OUT9, 15 OUT10, 16 OUT11, 17 OUT12, 18 OUT13, 19 OUT14, 20 OUT15, 21 ~{OE}, 22 SDO, 23 R-EXT, 24 VDD

## STP16CPC26TTR
designator IC?, comment STP16CPC26
IC LED DRVR LIN DIM 90MA 24TSSOP; Manufacturer: STMicroelectronics; Manufacturer Part Number: STP16CPC26TTR; Operating Supply Voltage: 5V; Output Voltage: 20V; Max Supply Voltage: 5.5V; Min Supply Voltage: 3V; Number of Outputs: 16; Frequency: 30MHz; Max Supply Current: 15.3mA; Supplier 1: Farnell; Supplier Part Number 1: 2762677; RoHS: Yes; Category: LED Drivers; Stock: 1271; Pricing: 1=0.51500, 50=0.45000, 100=0.43700, 250=0.42500, 500=0.41200, 1000=0.39900, 2500=0.35300, 5000=0.34500 (EUR); Mount: Surface Mount; Case/Package: TSSOP; Number of Pins: 24; Contact Plating: Gold; Min Operating Temperature: -40°C; Max Operating Temperature: 125°C; Packaging: Tape and Reel; Package Quantity: 2500; Output Current per Channel: 90mA; Radiation Hardening: No; Lead Free: Lead Free; ComponentLink1URL: https://datasheet.ciiva.com/41458/001184649-da-01-en-ic-led-sink-d-stp16cpc26ttr-tssop-24-stm-41458201.pdf?src-supplier=Conrad; ComponentLink1Description: https://datasheet.ciiva.com/41458/001184649-da-01-en-ic-led-sink-d-stp16cpc26ttr-tssop-24-stm-41458201.pdf?src-supplier=Conrad; ComponentLink2URL: https://datasheet.ciiva.com/1945/cd00298756-1945584.pdf?src-supplier=Digi-Key; ComponentLink2Description: https://datasheet.ciiva.com/1945/cd00298756-1945584.pdf?src-supplier=Digi-Key; ComponentLink3URL: https://datasheet.ciiva.com/1945/cd00298756-1945585.pdf?src-supplier=Digi-Key; ComponentLink3Description: https://datasheet.ciiva.com/1945/cd00298756-1945585.pdf?src-supplier=Digi-Key; ComponentLink4URL: https://datasheet.ciiva.com/1945/cd00298756-1945586.pdf?src-supplier=Digi-Key; ComponentLink4Description: https://datasheet.ciiva.com/1945/cd00298756-1945586.pdf?src-supplier=Digi-Key; ComponentLink5URL: https://datasheet.ciiva.com/17015/cd00298756-17015237.pdf?src-supplier=Avnet+Europe; ComponentLink5Description: https://datasheet.ciiva.com/17015/cd00298756-17015237.pdf?src-supplier=Avnet+Europe
footprint TSSOP-24 (TSOP, 24-Leads, Body 7.80x4.40mm, Pitch 0.65mm, IPC Medium Density)
pins: 1 GND, 2 SDI, 3 CLK, 4 LE, 5 OUT0, 6 OUT1, 7 OUT2, 8 OUT3, 9 OUT4, 10 OUT5, 11 OUT6, 12 OUT7, 13 OUT8, 14 OUT9, 15 OUT10, 16 OUT11, 17 OUT12, 18 OUT13, 19 OUT14, 20 OUT15, 21 ~{OE}, 22 SDO, 23 R-EXT, 24 VDD


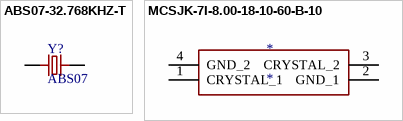
[diagram p2: symbols ABS07-32.768KHZ-T to MCSJK-7I-8.00-18-10-60-B-10]

## ABS07-32.768KHZ-T
designator Y?, comment ABS07
CRYSTAL 32.7680KHZ 12.5PF SMD; Manufacturer: Abracon; Manufacturer Part Number: ABS07-32.768KHZ-T; Frequency Tolerance: 20ppm; ESR (Equivalent Series Resistance): 70kR; Frequency: 32.768kHz; Supplier 1: Farnell; Supplier Part Number 1: 2101347; RoHS: Yes; Category: Crystals; Stock: 222445; Pricing: 5=0.65300, 50=0.44800, 250=0.43500, 500=0.34800, 1500=0.31800, 3000=0.28700, 15000=0.28500 (EUR); Case/Package: CSMD; Number of Pins: 2; Min Operating Temperature: -40°C; Max Operating Temperature: 85°C; Load Capacitance: 12.5pF; Packaging: Tape and Reel; Package Quantity: 3000; Tolerance: 20ppm; Termination: SMD/SMT; Series Resistance: 70kR; Length: 3.2mm; Height: 0.035inch; Width: 0.061inch; Depth: 1.5mm; Radiation Hardening: No; Lead Free: Lead Free; REACH SVHC: No SVHC; ComponentLink1URL: https://datasheet.ciiva.com/854/abs07-854935.pdf?src-supplier=Digi-Key; ComponentLink1Description: https://datasheet.ciiva.com/854/abs07-854935.pdf?src-supplier=Digi-Key; ComponentLink2URL: https://datasheet.ciiva.com/1357/1883680-1357319.pdf?src-supplier=Element14; ComponentLink2Description: https://datasheet.ciiva.com/1357/1883680-1357319.pdf?src-supplier=Element14; ComponentLink3URL: https://datasheet.ciiva.com/854/abs07-854936.pdf?src-supplier=Digi-Key; ComponentLink3Description: https://datasheet.ciiva.com/854/abs07-854936.pdf?src-supplier=Digi-Key; ComponentLink4URL: https://datasheet.ciiva.com/854/abs07-854937.pdf?src-supplier=Digi-Key; ComponentLink4Description: https://datasheet.ciiva.com/854/abs07-854937.pdf?src-supplier=Digi-Key; ComponentLink5URL: https://datasheet.ciiva.com/15214/getdatasheetpartid-727011-15214954.pdf?src-supplier=Verical; ComponentLink5Description: https://datasheet.ciiva.com/15214/getdatasheetpartid-727011-15214954.pdf?src-supplier=Verical; ComponentLink6URL: https://datasheet.ciiva.com/7998/1912628-7998667.pdf?src-supplier=Element14; ComponentLink6Description: https://datasheet.ciiva.com/7998/1912628-7998667.pdf?src-supplier=Element14; ComponentLink7URL: https://datasheet.ciiva.com/4944/abs07-11028-4944830.pdf?src-supplier=Mouser; ComponentLink7Description: https://datasheet.ciiva.com/4944/abs07-11028-4944830.pdf?src-supplier=Mouser
footprint ABS-07
pins: 1, 2

## MCSJK-7I-8.00-18-10-60-B-10
designator *
CRYSTAL, 8MHZ, 18PF, 5MM X 3.2MM; Frequency Nom: 8MHz; Crystal Case: SMD, 5mm x 3.2mm; Frequency Stability + / -:...; Manufacturer: Multicomp; Manufacturer Part Number: MCSJK-7I-8.00-18-10-60-B-10; Supplier 1: Farnell; Supplier Part Number 1: 2854012; RoHS: No; Stock: 644; Pricing: 1=0.60000, 50=0.39800, 100=0.38700, 250=0.35300, 500=0.33100, 1000=0.31200, 5000=0.29100, 10000=0.28500 (EUR)
pins: 1 CRYSTAL_1, 2 GND_1, 3 CRYSTAL_2, 4 GND_2


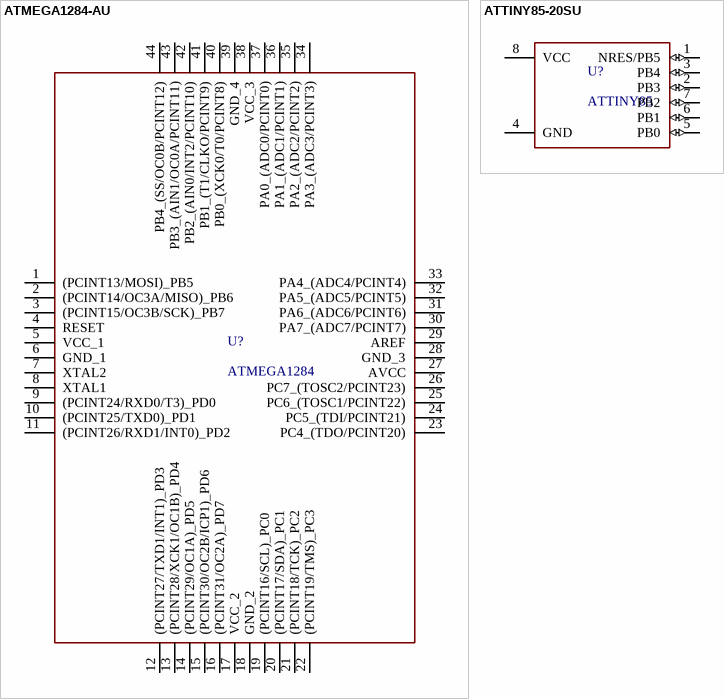
[diagram p3: symbols ATMEGA1284-AU to ATTINY85-20SU]

## ATMEGA1284-AU
designator U?, comment ATMEGA1284
Integrated Circuit; Manufacturer_Name: Microchip; Manufacturer_Part_Number: ATMEGA1284-AU; Datasheet Link: http://ww1.microchip.com/downloads/en/devicedoc/atmel-42718-atmega1284_datasheet_summary.pdf; Height: 1.2mm
footprint TQFP44
pins: 1 (PCINT13/MOSI)_PB5, 2 (PCINT14/OC3A/MISO)_PB6, 3 (PCINT15/OC3B/SCK)_PB7, 4 RESET, 5 VCC_1, 6 GND_1, 7 XTAL2, 8 XTAL1, 9 (PCINT24/RXD0/T3)_PD0, 10 (PCINT25/TXD0)_PD1, 11 (PCINT26/RXD1/INT0)_PD2, 12 (PCINT27/TXD1/INT1)_PD3, 13 (PCINT28/XCK1/OC1B)_PD4, 14 (PCINT29/OC1A)_PD5, 15 (PCINT30/OC2B/ICP1)_PD6, 16 (PCINT31/OC2A)_PD7, 17 VCC_2, 18 GND_2, 19 (PCINT16/SCL)_PC0, 20 (PCINT17/SDA)_PC1, 21 (PCINT18/TCK)_PC2, 22 (PCINT19/TMS)_PC3, 23 PC4_(TDO/PCINT20), 24 PC5_(TDI/PCINT21), 25 PC6_(TOSC1/PCINT22), 26 PC7_(TOSC2/PCINT23), 27 AVCC, 28 GND_3, 29 AREF, 30 PA7_(ADC7/PCINT7), 31 PA6_(ADC6/PCINT6), 32 PA5_(ADC5/PCINT5), 33 PA4_(ADC4/PCINT4), 34 PA3_(ADC3/PCINT3), 35 PA2_(ADC2/PCINT2), 36 PA1_(ADC1/PCINT1), 37 PA0_(ADC0/PCINT0), 38 VCC_3, 39 GND_4, 40 PB0_(XCK0/T0/PCINT8), 41 PB1_(T1/CLKO/PCINT9), 42 PB2_(AIN0/INT2/PCINT10), 43 PB3_(AIN1/OC0A/PCINT11), 44 PB4_(SS/OC0B/PCINT12)

## ATTINY85-20SU
designator U?, comment ATTINY85
IC, 8BIT MCU, AVR TINY, 20MHZ, 8-SOIC; Manufacturer: Microchip / Atmel; Manufacturer Part Number: ATTINY85-20SU; Memory Type: FLASH; Memory Size: 8KB; Number of Timers/Counters: 2; RAM Size: 512B; Interface: SPI; Max Supply Voltage: 5.5V; Min Supply Voltage: 2.7V; Number of I/Os: 6; Oscillator Type: Internal; Peripherals: Brown-out Detect/Reset; Data Bus Width: 8b; Watchdog Timer: Yes; Number of ADC Channels: 4; Number of UART Channels: 1; Access Time: 20us; Supplier 1: Farnell; Supplier Part Number 1: 1455164; Stock: 2172; Pricing: 1=0.972, 25=0.925, 100=0.894, 1000=0.862 (EUR); RoHS: Yes; Mount: Surface Mount; Case/Package: SOIC; Number of Pins: 8; Contact Plating: Tin; Min Operating Temperature: -40°C; Max Operating Temperature: 85°C; Frequency: 20MHz; Packaging: Rail/Tube; Core Architecture: AVR; Package Quantity: 95; Number of Programmable I/O: 6; Max Frequency: 20MHz; Number of PWM Channels: 6; Density: 8KB; Number of SPI Channels: 1; Number of I2C Channels: 1; Termination: SMD/SMT; Length: 5.35mm; Height: 1.91mm; Width: 5.4mm; Radiation Hardening: No; Lead Free: Lead Free; REACH SVHC: No SVHC; ComponentLink1URL: https://datasheet.ciiva.com/1167/1698186-1167152.pdf?src-supplier=Newark; ComponentLink1Description: https://datasheet.ciiva.com/1167/1698186-1167152.pdf?src-supplier=Newark; ComponentLink2URL: https://datasheet.ciiva.com/15122/getdatasheetpartid-131914-15122511.pdf?src-supplier=Verical; ComponentLink2Description: https://datasheet.ciiva.com/15122/getdatasheetpartid-131914-15122511.pdf?src-supplier=Verical; ComponentLink3URL: https://datasheet.ciiva.com/26207/doc2586-26207573.pdf?src-supplier=Avnet+Europe; ComponentLink3Description: https://datasheet.ciiva.com/26207/doc2586-26207573.pdf?src-supplier=Avnet+Europe; ComponentLink4URL: https://datasheet.ciiva.com/28653/1698186-28653829.pdf?src-supplier=Element14; ComponentLink4Description: https://datasheet.ciiva.com/28653/1698186-28653829.pdf?src-supplier=Element14; ComponentLink5URL: https://datasheet.ciiva.com/3203/doc2586-3203150.pdf?src-supplier=Avnet; ComponentLink5Description: https://datasheet.ciiva.com/3203/doc2586-3203150.pdf?src-supplier=Avnet; Price: 0.98
footprint SOP8 (SOP, 8-Leads, Body 5.24x5.29mm, Pitch 1.27mm, IPC Medium Density)
pins: 1 NRES/PB5 (io), 2 PB3 (io), 3 PB4 (io), 4 GND (power), 5 PB0 (io), 6 PB1 (io), 7 PB2 (io), 8 VCC (power)


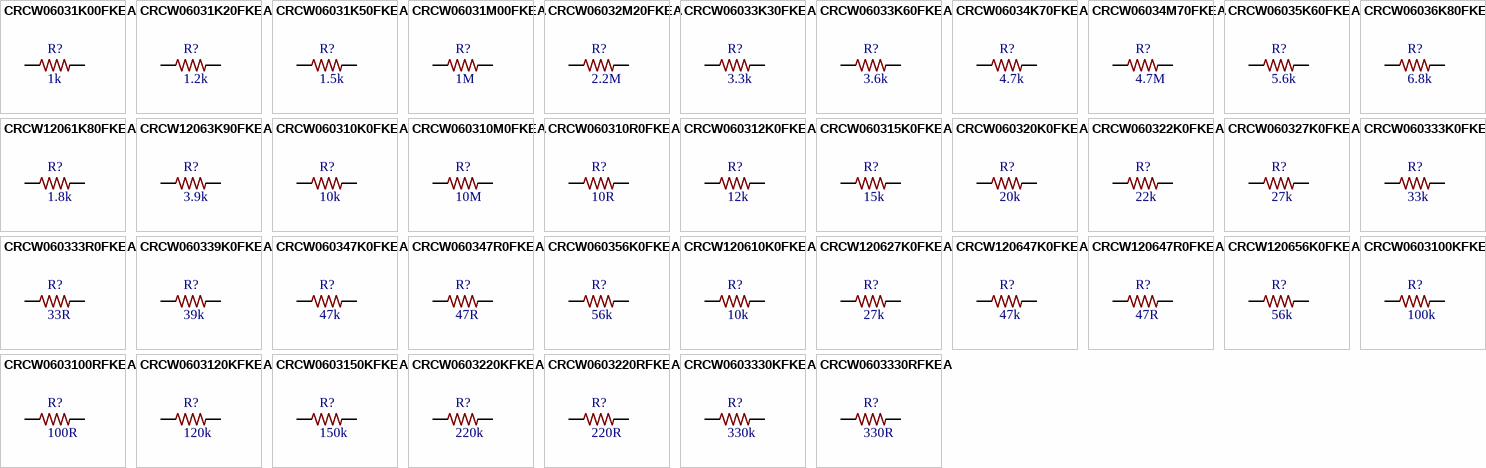
[diagram p4: symbols CRCW06031K00FKEA to CRCW0603330RFKEA]

## CRCW06031K00FKEA
designator R?, comment 1k
RES SMD 1K OHM 1% 1/10W 0603; Manufacturer: Vishay Dale; Manufacturer Part Number: CRCW06031K00FKEA; Resistance: 1kR; Temperature Coefficient: 100ppm/°C; Power Rating: 100mW; Voltage Rating: 75V; Supplier 1: Farnell; Supplier Part Number 1: 1469740; Stock: 1083345; Pricing: 10=0.017, 100=0.0131, 500=0.0114, 1000=0.008, 2500=0.0061 (EUR); RoHS: Yes; Mount: Surface Mount; Case/Package: 0603; Number of Pins: 2; Weight: 7.1E-05oz; Contact Plating: Tin; Case Code (Metric): 1608; Case Code (Imperial): 0603; Min Operating Temperature: -55°C; Max Operating Temperature: 155°C; Composition: Thick Film; Tolerance: 1%; Termination: SMD/SMT; Packaging: Tape and Reel; Package Quantity: 10; Number of Terminations: 2; Military Standard: Not; Max Power Dissipation: 100mW; Voltage Rating (DC): 75V; Features: Automotive AEC-Q200; Length: 1.55mm; Height: 0.45mm; Width: 0.033inch; Depth: 0.85mm; Radiation Hardening: No; Lead Free: Lead Free; REACH SVHC: Unknown; ComponentLink1URL: https://datasheet.ciiva.com/11808/0900766b80d98afc-11808625.pdf?src-supplier=RSComponents; ComponentLink1Description: https://datasheet.ciiva.com/11808/0900766b80d98afc-11808625.pdf?src-supplier=RSComponents; ComponentLink2URL: https://datasheet.ciiva.com/2465/dcrcwe3-2465536.pdf?src-supplier=Digi-Key; ComponentLink2Description: https://datasheet.ciiva.com/2465/dcrcwe3-2465536.pdf?src-supplier=Digi-Key; ComponentLink3URL: https://datasheet.ciiva.com/8336/dcrcwe3-8336822.pdf?src-supplier=Avnet; ComponentLink3Description: https://datasheet.ciiva.com/8336/dcrcwe3-8336822.pdf?src-supplier=Avnet; ComponentLink4URL: https://datasheet.ciiva.com/16515/dcrcwe3-16515078.pdf?src-supplier=Avnet+Asia; ComponentLink4Description: https://datasheet.ciiva.com/16515/dcrcwe3-16515078.pdf?src-supplier=Avnet+Asia; ComponentLink5URL: https://datasheet.ciiva.com/46441/1720486-46441622.pdf?src-supplier=Element14; ComponentLink5Description: https://datasheet.ciiva.com/46441/1720486-46441622.pdf?src-supplier=Element14; ComponentLink6URL: https://datasheet.ciiva.com/26316/fld-crcw-e3-data-en-26316551.pdf?src-supplier=Distrelec; ComponentLink6Description: https://datasheet.ciiva.com/26316/fld-crcw-e3-data-en-26316551.pdf?src-supplier=Distrelec; ComponentLink7URL: https://datasheet.ciiva.com/46441/1720486-46441623.pdf?src-supplier=Element14; ComponentLink7Description: https://datasheet.ciiva.com/46441/1720486-46441623.pdf?src-supplier=Element14; ComponentLink8URL: https://datasheet.ciiva.com/46385/1697337-46385497.pdf?src-supplier=Element14; ComponentLink8Description: https://datasheet.ciiva.com/46385/1697337-46385497.pdf?src-supplier=Element14; ComponentLink9URL: https://datasheet.ciiva.com/3257/dcrcwe3-3257132.pdf?src-supplier=Avnet; ComponentLink9Description: https://datasheet.ciiva.com/3257/dcrcwe3-3257132.pdf?src-supplier=Avnet; ComponentLink10URL: https://datasheet.ciiva.com/16199/dcrcwe3-16199053.pdf?src-supplier=Future+Electronics; ComponentLink10Description: https://datasheet.ciiva.com/16199/dcrcwe3-16199053.pdf?src-supplier=Future+Electronics; ComponentLink11URL: https://datasheet.ciiva.com/2465/dcrcwe3-2465534.pdf?src-supplier=Digi-Key; ComponentLink11Description: https://datasheet.ciiva.com/2465/dcrcwe3-2465534.pdf?src-supplier=Digi-Key; ComponentLink12URL: https://datasheet.ciiva.com/16893/dcrcwe3-16893742.pdf?src-supplier=Avnet+Europe; ComponentLink12Description: https://datasheet.ciiva.com/16893/dcrcwe3-16893742.pdf?src-supplier=Avnet+Europe; ComponentLink13URL: https://datasheet.ciiva.com/2465/dcrcwe3-2465535.pdf?src-supplier=Digi-Key; ComponentLink13Description: https://datasheet.ciiva.com/2465/dcrcwe3-2465535.pdf?src-supplier=Digi-Key; Price: 0.013
footprint CHIP_R_0603 (Chip Resistor, 2-Leads, Body 1.60x0.80mm, IPC Medium Density)
pins: 1, 2